# Altium integrated library Connectors - MISC.IntLib: 5 symbols
Pins are listed as number, name and electrical type; pins without a type are passive.

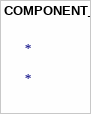
[diagram p0: symbol COMPONENT_1]

## COMPONENT_1
designator *


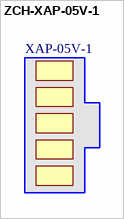
[diagram p1: symbol ZCH-XAP-05V-1]

## ZCH-XAP-05V-1
designator ZCH, comment XAP-05V-1  (mechanical)
XA style connector housing, 5 positions, 2.5mm pitch, w/ locking ramp; Manufacturer: Japan Solderless Termainls; Mates with (PCB): B05B-XASK-1; Rows: 1; Crimp Pin: 28-22 AWG - SXA-001T-P0.6; 26-22 AWG - SXA-001T-P0.6L; 24-20 AWG - SXA-01T-P0.6; Mates with (Wire housing): --; Mounting Type: Free-Hanging; PackageDescription: 5 Pin XA style housing, 2.5mm pitch, locking ramp; Package Reference: Housing; Pins: 5; Pitch: 2.5mm; Supplier 1: Newark; Supplier Part Number 1: 38K9501; Supplier 2: Allied; Supplier Part Number 2: R1044304; Supplier 3: Digi-Key; Supplier Part Number 3: 455-2151-ND; Part Number: XAP-05V-1


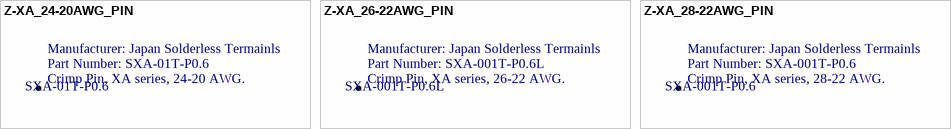
[diagram p2: symbols Z-XA_24-20AWG_PIN to Z-XA_28-22AWG_PIN]

## Z-XA_24-20AWG_PIN
designator Crimp-pin, comment SXA-01T-P0.6  Manufacturer: Japan Solderless Termainls  (mechanical)
Crimp Pin, XA series, 24-20 AWG.; Used with: All XA series housings; PackageReference: Crimp Contact; Crimp Pin: --; Supplier 1: Newark; Supplier Part Number 1: 90R9289; Supplier 2: Digi-Key; Supplier Part Number 2: 455-2051-1-ND; PackageDescription: Crimp Pin, XA series, 24-20 AWG.; Part Number: SXA-01T-P0.6
text: .

## Z-XA_26-22AWG_PIN
designator Crimp-pin, comment SXA-001T-P0.6L  Manufacturer: Japan Solderless Termainls  (mechanical)
Crimp Pin, XA series, 26-22 AWG.; Used with: All XA series housings; PackageReference: Crimp Contact; Crimp Pin: --; Supplier 1: Newark; Supplier Part Number 1: 90R9288; Supplier 2: Digi-Key; Supplier Part Number 2: 455-2050-1-ND; PackageDescription: Crimp Pin, XA series, 26-22 AWG.; Part Number: SXA-001T-P0.6L
text: .

## Z-XA_28-22AWG_PIN
designator Crimp-pin, comment SXA-001T-P0.6  Manufacturer: Japan Solderless Termainls  (mechanical)
Crimp Pin, XA series, 28-22 AWG.; Used with: All XA series housings; PackageReference: Crimp Contact; Crimp Pin: --; Supplier 1: Newark; Supplier Part Number 1: 90R9288; Supplier 2: Digi-Key; Supplier Part Number 2: 455-1904-1-ND; PackageDescription: Crimp Pin, XA series, 28-22 AWG.; Part Number: SXA-001T-P0.6
text: .